# Altium schematic symbol library CAP,Alum,470uF,20%,450V,Snap.Schlib: 1 symbol
Pins are listed as number, name and electrical type; pins without a type are passive.

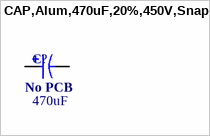
[diagram p0: symbol CAP,Alum,470uF,20%,450V,Snap]

## CAP,Alum,470uF,20%,450V,Snap
designator C?, comment 470uF
470µF 450V Aluminum Electrolytic Capacitors Radial, Can - Snap-In 2000 Hrs @ 85°C
pins: 1, 2
1 alternate drawing of the same symbol
text: No PCB